# EAGLE library part LPC11U35FHN33/401 (library Honey_v2)
MCU, 32BIT, ARM CORTEX-M0, 32HVQFN
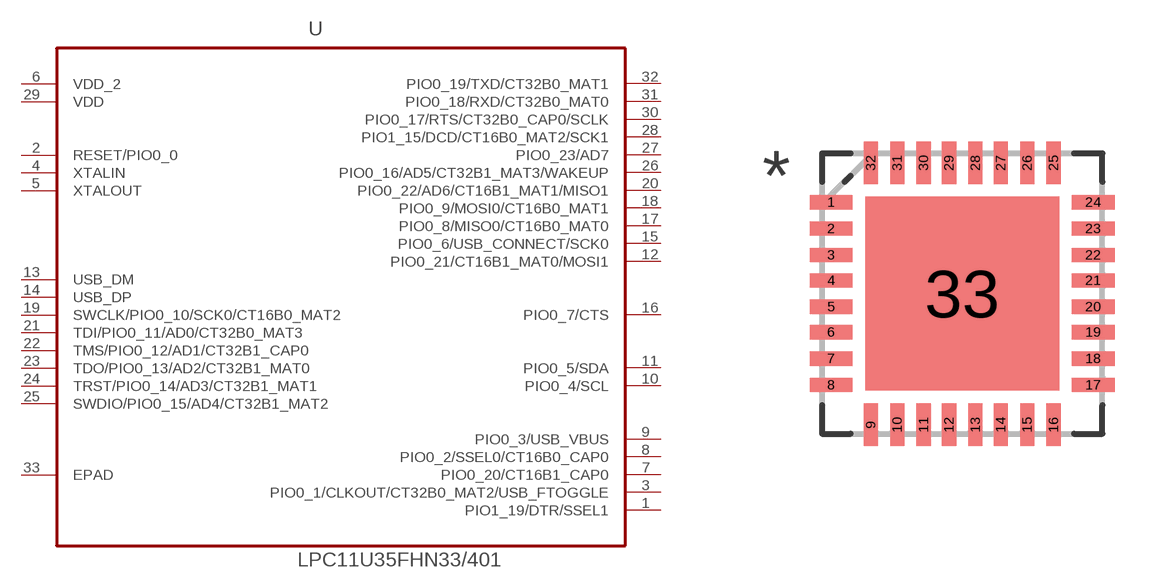
[diagram p0: symbol with the pads of QFN65P700X700X100-33N; footprint QFN65P700X700X100-33N]

Designator prefix U

## LPC11U35FHN33/401 (MPN: LPC11U35FHN33/401; OC_FARNELL: 2115659; OC_NEWARK: 24W5343; PACKAGE: HVQFN33; SUPPLIER: NXP)  [QFN65P700X700X100-33N]
1  PIO1_19/DTR/SSEL1
2  RESET/PIO0_0  in
3  PIO0_1/CLKOUT/CT32B0_MAT2/USB_FTOGGLE
4  XTALIN  in
5  XTALOUT  out
6  VDD_2  pwr
7  PIO0_20/CT16B1_CAP0
8  PIO0_2/SSEL0/CT16B0_CAP0
9  PIO0_3/USB_VBUS
10  PIO0_4/SCL
11  PIO0_5/SDA
12  PIO0_21/CT16B1_MAT0/MOSI1
13  USB_DM  pas
14  USB_DP  pas
15  PIO0_6/USB_CONNECT/SCK0
16  PIO0_7/CTS
17  PIO0_8/MISO0/CT16B0_MAT0
18  PIO0_9/MOSI0/CT16B0_MAT1
19  SWCLK/PIO0_10/SCK0/CT16B0_MAT2  in
20  PIO0_22/AD6/CT16B1_MAT1/MISO1
21  TDI/PIO0_11/AD0/CT32B0_MAT3  in
22  TMS/PIO0_12/AD1/CT32B1_CAP0  in
23  TDO/PIO0_13/AD2/CT32B1_MAT0  out
24  TRST/PIO0_14/AD3/CT32B1_MAT1  in
25  SWDIO/PIO0_15/AD4/CT32B1_MAT2  out
26  PIO0_16/AD5/CT32B1_MAT3/WAKEUP
27  PIO0_23/AD7
28  PIO1_15/DCD/CT16B0_MAT2/SCK1
29  VDD  pwr
30  PIO0_17/RTS/CT32B0_CAP0/SCLK
31  PIO0_18/RXD/CT32B0_MAT0
32  PIO0_19/TXD/CT32B0_MAT1
33  EPAD  pas

## Footprint QFN65P700X700X100-33N (pad centres in mm)
smd 1.067 x 0.356: 1 -3.277,2.286; 2 -3.277,1.626; 3 -3.277,0.965; 4 -3.277,0.33; 5 -3.277,-0.33; 6 -3.277,-0.965; 7 -3.277,-1.626; 8 -3.277,-2.286; 17 3.277,-2.286; 18 3.277,-1.626; 19 3.277,-0.965; 20 3.277,-0.33; 21 3.277,0.33; 22 3.277,0.965; 23 3.277,1.626; 24 3.277,2.286
smd 0.356 x 1.067: 9 -2.286,-3.277; 10 -1.626,-3.277; 11 -0.965,-3.277; 12 -0.33,-3.277; 13 0.33,-3.277; 14 0.965,-3.277; 15 1.626,-3.277; 16 2.286,-3.277; 25 2.286,3.277; 26 1.626,3.277; 27 0.965,3.277; 28 0.33,3.277; 29 -0.33,3.277; 30 -0.965,3.277; 31 -1.626,3.277; 32 -2.286,3.277
smd 4.851 x 4.851: 33 0,0